# Altium footprint library IDTILab.PcbLib: 105 footprints (part 6 of 7)
Each footprint in its own frame and in the unit in brackets; x right, y up, seen from the top. Pads: shape width x height; smd on the part's side, far side on the other; paste and mask are expansions set on the pad; w line width, h text height; cw(c..) or ccw(c..) is an arc to the next point about the centre after c.
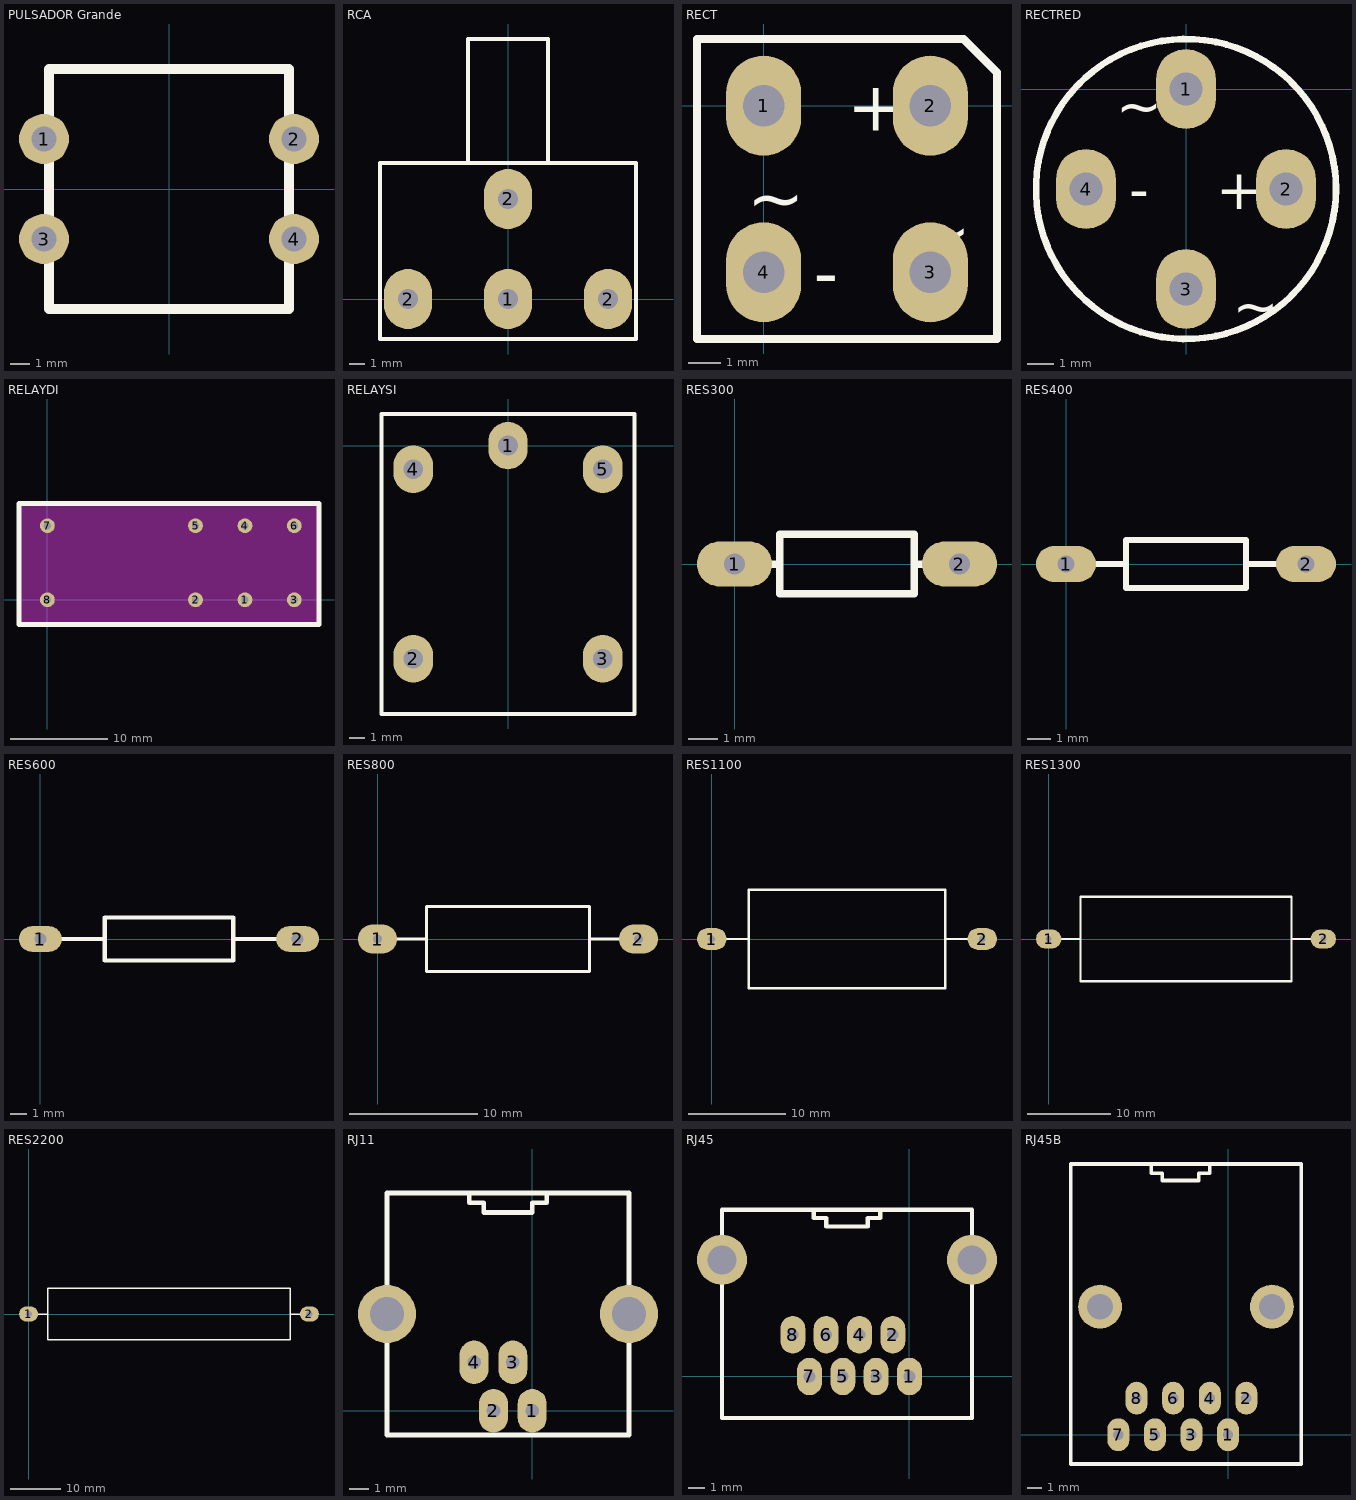
[diagram p5: the footprints below, top view; thin cyan lines are the x and y axes]

## PULSADOR Grande [mil]
pads (4):
  round 100 hole 50: 1(-250,100) 2(250,100) 3(-250,-100) 4(250,-100)
Top Overlay:
  lines w20: -240,-240 -240,240 240,240 240,-240 -240,-240

## RCA [mil]
pads (4):
  oval 120x150 hole 50: 1(0,0) 2(-250,0) 2(0,250) 2(250,0)
Top Overlay:
  lines w10: -100,340 -100,650 100,650 100,340 ; -320,-100 320,-100 320,340 -320,340 -320,-100

## RECT [mil]
pads (4):
  oval 90x120 hole 50: 1(0,0) 2(200,0) 3(200,-200) 4(0,-200)
Top Overlay:
  lines w10: -80,-280 280,-280 280,40 240,80 -80,80 -80,-280
  text "+" at 100,-30 h60
  text "-" at 60,-230 h60
  text "~" at -20,-140 h60
  text "~" at 180,-180 h60

## RECTRED [mil]
pads (4):
  oval 90x120 hole 50: 1(0,0) 2(150,-150) 3(0,-300) 4(-150,-150)
Top Overlay:
  circle w10: c0,-150 r225
  text "-" at -85,-180 h60
  text "+" at 45,-180 h60
  text "~" at 70,-355 h60
  text "~" at -105,-55 h60

## RELAYDI [mil]
pads (8):
  round 60 hole 30: 1(800,0) 2(600,0) 3(1000,0) 4(800,300) 5(600,300) 6(1000,300) 7(0,300) 8(0,0)
Top Layer keep-out:
  region: -115,390 1100,390 1100,-100 -115,-100
Top Overlay:
  lines w20: -115,-100 -115,-85 -115,390 1075,390 1100,390 1100,-100 -115,-100

## RELAYSI [mil]
pads (5):
  oval 100x120 hole 50: 1(0,0) 2(-240,-540) 3(240,-540) 4(-240,-60) 5(240,-60)
Top Overlay:
  lines w10: -320,-680 -320,80 0,80 320,80 320,-680 -320,-680

## RES300 [mil]
pads (2):
  oval 100x60 hole 28: 1(0,0) 2(300,0)
Top Overlay:
  lines w10: 0,0 60,0 ; 240,0 300,0 ; 60,0 60,40 240,40 240,-40 60,-40 60,0

## RES400 [mil]
pads (2):
  oval 100x60 hole 28: 1(0,0) 2(400,0)
Top Overlay:
  lines w10: 0,0 100,0 ; 400,0 300,0 ; 100,0 100,40 300,40 300,0 ; 100,0 100,-40 300,-40 300,0

## RES600 [mil]
pads (2):
  oval 100x60 hole 28: 1(0,0) 2(600,0)
Top Overlay:
  lines w10: 0,0 150,0 ; 600,0 450,0 ; 150,0 150,-50 450,-50 450,0 ; 150,0 150,50 450,50 450,0

## RES800 [mil]
pads (2):
  oval 120x90 hole 28: 1(0,0) 2(800,0)
Top Overlay:
  lines w10: 0,0 150,0 ; 800,0 650,0 ; 150,0 150,100 650,100 650,0 ; 150,0 150,-100 650,-100 650,0

## RES1100 [mil]
pads (2):
  oval 120x90 hole 28: 1(0,0) 2(1100,0)
Top Overlay:
  lines w10: 0,0 150,0 ; 1100,0 950,0 ; 150,0 150,-200 950,-200 950,0 ; 150,0 150,200 950,200 950,0

## RES1300 [mil]
pads (2):
  oval 120x90 hole 28: 1(0,0) 2(1300,0)
Top Overlay:
  lines w10: 0,0 150,0 ; 1300,0 1150,0 ; 150,0 150,200 1150,200 1150,0 ; 150,0 150,-200 1150,-200 1150,0

## RES2200 [mil]
pads (2):
  oval 150x120 hole 50: 1(0,0) 2(2200,0)
Top Overlay:
  lines w10: 0,0 150,0 ; 2200,0 2050,0 ; 150,0 150,-200 2050,-200 2050,0 ; 150,0 150,200 2050,200 2050,0

## RJ11 [mil]
pads (6):
  oval 60x90 hole 28: 1(0,0) 2(-80,0) 3(-40,100) 4(-120,100)
  round 120 hole 70: ""(-300,200) ""(200,200)
Top Overlay:
  lines w10: -130,450 -130,430 -100,430 -100,410 0,410 0,430 30,430 30,450 ; -300,-50 -300,450 200,450 200,-50 -300,-50

## RJ45 [mil]
pads (10):
  oval 60x90 hole 28: 1(0,0) 2(-40,100) 3(-80,0) 4(-120,100) 5(-160,0) 6(-200,100) 7(-240,0) 8(-280,100)
  round 120 hole 70: ""(-450,280) ""(150,280)
Top Overlay:
  lines w10: -230,400 -230,380 -200,380 -200,360 -100,360 -100,380 -70,380 -70,400 ; -450,-100 150,-100 150,400 -450,400 -450,-100

## RJ45B [mil]
pads (10):
  oval 60x90 hole 28: 1(0,0) 2(50,100) 3(-100,0) 4(-50,100) 5(-200,0) 6(-150,100) 7(-300,0) 8(-250,100)
  round 120 hole 70: ""(-350,350) ""(120,350)
Top Overlay:
  lines w10: -210,735 -210,715 -180,715 -180,695 -80,695 -80,715 -50,715 -50,735 ; -430,-80 200,-80 200,740 -430,740 -430,-80